# Altium footprint library PHOENIX_MKDS_6.35MM_2x1.PcbLib: 1 footprints
Each footprint in its own frame and in the unit in brackets; x right, y up, seen from the top. Pads: shape width x height; smd on the part's side, far side on the other; paste and mask are expansions set on the pad; w line width, h text height; cw(c..) or ccw(c..) is an arc to the next point about the centre after c.
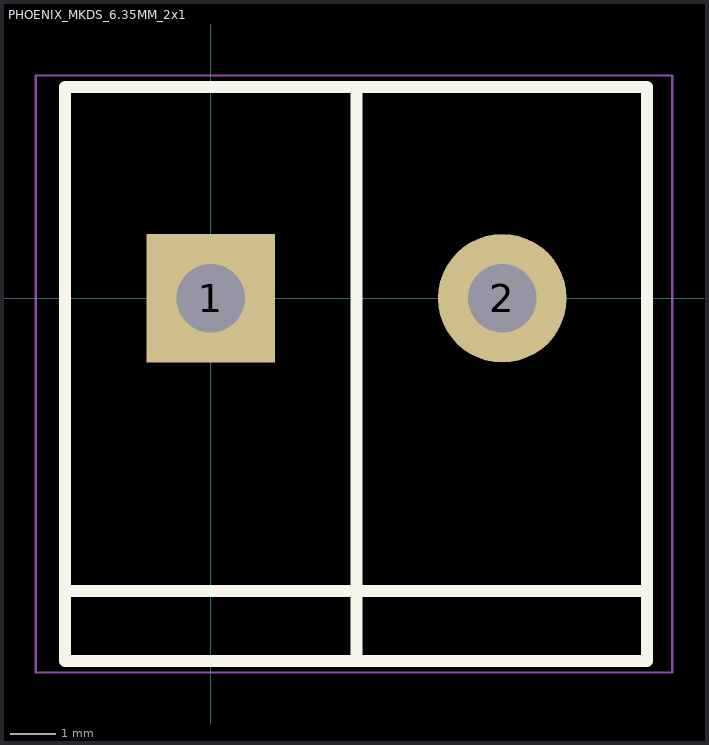
[diagram p0: the footprint, top view; thin cyan lines are the x and y axes]

## PHOENIX_MKDS_6.35MM_2x1 [mm] "Terminal Block, 0.25\" Spacing, 2x1"
pads (2):
  rect 2.8x2.8 hole 1.5: 1(0,0)
  round 2.8 hole 1.5: 2(6.35,0)
Top Overlay:
  lines w0.254: -3.175,-6.376 9.5,-6.376 ; 3.175,-7.9 3.175,4.6 ; -3.175,-7.9 9.5,-7.9 9.5,4.6 -3.175,4.6 -3.175,-7.9
Mechanical 15:
  lines w0.05: -3.81,-8.15 -3.81,4.85 10.05,4.85 10.05,-8.15 -3.81,-8.15
3D body "PHOENIX_MKDS_6-35mm_2x1.stp": height 21.5, standoff -5, extent -3.735,-7.9 9.535,4.6